# Altium footprint library ProtectionDevices.PCBLIB: 29 footprints (part 2 of 2)
Each footprint in its own frame and in the unit in brackets; x right, y up, seen from the top. Pads: shape width x height; smd on the part's side, far side on the other; paste and mask are expansions set on the pad; w line width, h text height; cw(c..) or ccw(c..) is an arc to the next point about the centre after c.
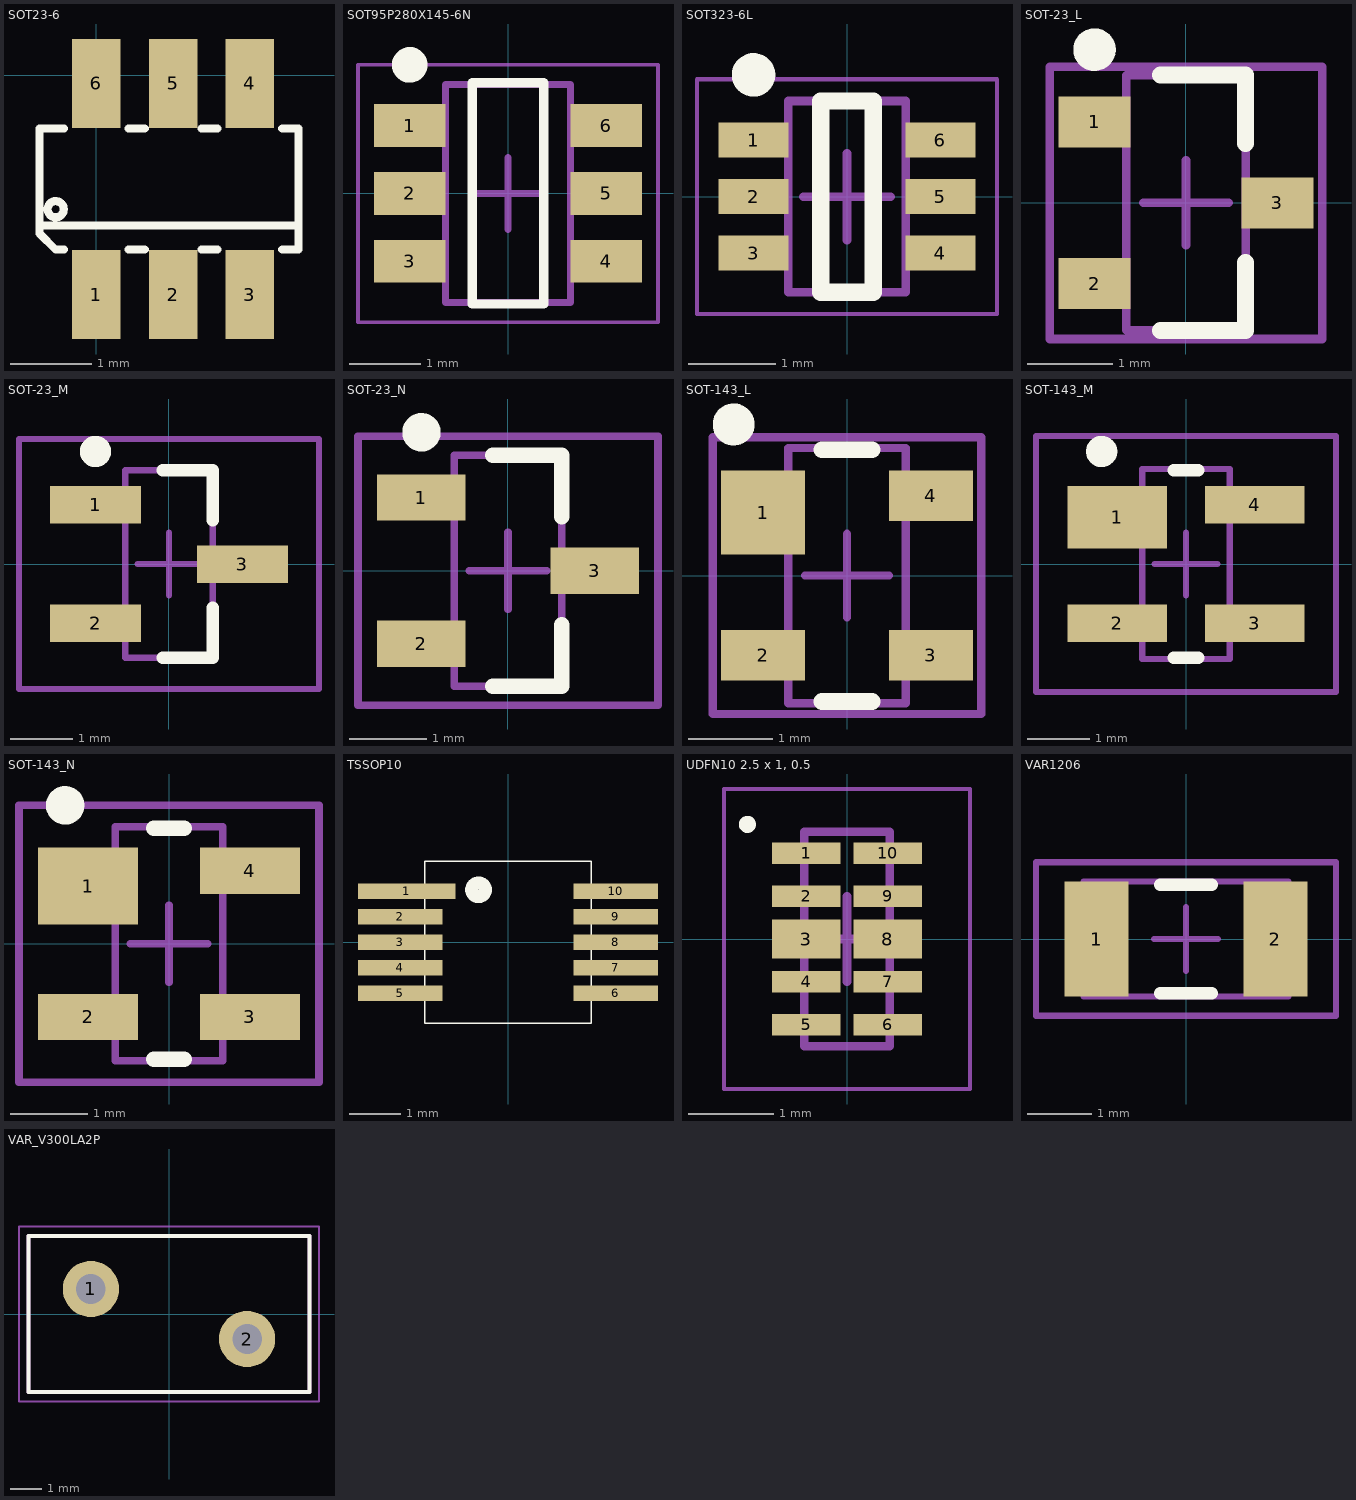
[diagram p1: the footprints below, top view; thin cyan lines are the x and y axes]

## SOT23-6 [mm]
pads (6):
  rect 0.6x1.1 smd: 1(0,-2.708) 2(0.95,-2.708) 3(1.9,-2.708) 4(1.9,-0.1) 5(0.95,-0.1) 6(0,-0.1)
Top Overlay:
  circle w0.1: c-0.5,-1.654 r0.1
  lines w0.1: -0.4,-2.154 -0.5,-2.154 -0.7,-1.954 -0.7,-1.854 ; -0.4,-0.654 -0.7,-0.654 -0.7,-1.854 ; 0.4,-2.154 0.6,-2.154 ; 0.4,-0.654 0.6,-0.654 ; 1.3,-2.154 1.5,-2.154 ; 1.3,-0.654 1.5,-0.654 ; 2.3,-2.154 2.5,-2.154 2.5,-1.854 ; 2.3,-0.654 2.5,-0.654 2.5,-1.854 ; -0.7,-1.854 2.5,-1.854
3D body "User Library-SOT23-6-2.step": height 1.45, standoff 0, extent -0.501,-2.805 2.399,-0.005

## SOT95P280X145-6N [mm] "SOT23, 6-Leads, Body 2,93x2,80mm, Pitch 0,95mm, IPC Medium Density"
height 1.45
pads (6):
  rect 1x0.6 smd: 1(-1.375,0.95) 2(-1.375,0) 3(-1.375,-0.95) 4(1.375,-0.95) 5(1.375,0) 6(1.375,0.95)
Top Overlay:
  circle w0.25: c-1.375,1.8 r0.125
  lines w0.127: -0.5,-1.55 -0.5,1.55 0.5,1.55 0.5,-1.55 -0.5,-1.55
Mechanical 13:
  lines w0.1: -0.875,-1.525 0.875,-1.525 0.875,1.525 -0.875,1.525 -0.875,-1.525
Mechanical 15:
  lines w0.05: -2.1,-1.8 2.1,-1.8 2.1,1.8 -2.1,1.8 -2.1,-1.8
  lines w0.1: -0.5,0 0.5,0 ; 0,-0.5 0,0.5
3D body "SOT95P280X145-6N.step": height 1.45, standoff 0, extent -1.5,-1.525 1.5,1.525

## SOT323-6L [mm]
height 1.1
pads (6):
  rect 0.8x0.4 smd: 1(-1.075,0.65) 2(-1.075,0) 3(-1.075,-0.65) 4(1.075,-0.65) 5(1.075,0) 6(1.075,0.65)
Top Overlay:
  circle w0.25: c-1.075,1.4 r0.125
  lines w0.2: -0.3,-1.1 0.3,-1.1 0.3,1.1 -0.3,1.1 -0.3,-1.1
Mechanical 13:
  lines w0.1: -0.675,-1.1 -0.675,1.1 0.675,1.1 0.675,-1.1 -0.675,-1.1
Mechanical 15:
  lines w0.05: -1.725,-1.35 -1.725,1.35 1.725,1.35 1.725,-1.35 -1.725,-1.35
  lines w0.1: -0.5,0 0.5,0 ; 0,-0.5 0,0.5
3D body "SOT323-6L.step": height 1.1, standoff 0, extent -1.049,-1.1 1.049,1.1

## SOT-23_L [mm] "SOT23, 3-Leads, Body 2.9x1.3mm, Pitch 0.95mm, Lead Span 2.5mm, IPC High Density"
height 1.1
pads (3):
  rect 0.85x0.6 smd: 1(-1.075,0.95) 2(-1.075,-0.95) 3(1.075,0)
Top Overlay:
  circle w0.25: c-1.075,1.8 r0.125
  lines w0.2: -0.3,-1.5 0.7,-1.5 0.7,-0.7 ; -0.3,1.5 0.7,1.5 0.7,0.7
Mechanical 13:
  lines w0.1: -0.7,-1.5 0.7,-1.5 0.7,1.5 -0.7,1.5 -0.7,-1.5
Mechanical 15:
  lines w0.1: -0.5,0 0.5,0 ; 0,-0.5 0,0.5 ; -1.6,-1.6 1.6,-1.6 1.6,1.6 -1.6,1.6 -1.6,-1.6
3D body "User Library-3-lead sot23-3.step": height 0.98, standoff -0.04, extent -1.123,-1.46 1.353,1.46

## SOT-23_M [mm] "SOT23, 3-Leads, Body 2.9x1.3mm, Pitch 0.95mm, Lead Span 2.5mm, IPC Low Density"
height 1.1
pads (3):
  rect 1.45x0.6 smd: 1(-1.175,0.95) 2(-1.175,-0.95) 3(1.175,0)
Top Overlay:
  circle w0.25: c-1.175,1.8 r0.125
  lines w0.2: -0.1,-1.5 0.7,-1.5 0.7,-0.7 ; -0.1,1.5 0.7,1.5 0.7,0.7
Mechanical 13:
  lines w0.1: -0.7,-1.5 -0.7,1.5 0.7,1.5 0.7,-1.5 -0.7,-1.5
Mechanical 15:
  lines w0.1: -0.5,0 0.5,0 ; 0,-0.5 0,0.5 ; -2.4,-2 -2.4,2 2.4,2 2.4,-2 -2.4,-2
3D body "User Library-3-lead sot23-3.step": height 0.98, standoff -0.04, extent -1.377,-1.46 1.099,1.46

## SOT-23_N [mm] "SOT23, 3-Leads, Body 2.9x1.3mm, Pitch 0.95mm, Lead Span 2.5mm, IPC Medium Density"
height 1.1
pads (3):
  rect 1.15x0.6 smd: 1(-1.125,0.95) 2(-1.125,-0.95) 3(1.125,0)
Top Overlay:
  circle w0.25: c-1.125,1.8 r0.125
  lines w0.2: -0.2,-1.5 0.7,-1.5 0.7,-0.7 ; -0.2,1.5 0.7,1.5 0.7,0.7
Mechanical 13:
  lines w0.1: -0.7,-1.5 0.7,-1.5 0.7,1.5 -0.7,1.5 -0.7,-1.5
Mechanical 15:
  lines w0.1: -0.5,0 0.5,0 ; 0,-0.5 0,0.5 ; -1.95,-1.75 1.95,-1.75 1.95,1.75 -1.95,1.75 -1.95,-1.75
3D body "User Library-3-lead sot23-3.step": height 0.98, standoff -0.04, extent -1.25,-1.46 1.226,1.46

## SOT-143_L [mm] "SOT143, 4-Leads, Body 2.9x1.3mm, Pitch 1.9mm, Lead Span 2.5mm, IPC High Density"
height 1.1
pads (4):
  rect 1x1 smd: 1(-1,0.75)
  rect 1x0.6 smd: 2(-1,-0.95) 3(1,-0.95) 4(1,0.95)
Top Overlay:
  circle w0.25: c-1.35,1.8 r0.125
  lines w0.2: -0.3,-1.5 0.3,-1.5 ; -0.3,1.5 0.3,1.5
Mechanical 13:
  lines w0.1: -0.7,-1.52 -0.7,1.52 0.7,1.52 0.7,-1.52 -0.7,-1.52
Mechanical 15:
  lines w0.1: -0.5,0 0.5,0 ; 0,-0.5 0,0.5 ; -1.6,-1.65 -1.6,1.65 1.6,1.65 1.6,-1.65 -1.6,-1.65
3D body "User Library-sot143.step": height 0.97, standoff -0.03, extent -1.21,-1.46 1.21,1.46

## SOT-143_M [mm] "SOT143, 4-Leads, Body 2.9x1.3mm, Pitch 1.9mm, Lead Span 2.5mm, IPC Low Density"
height 1.1
pads (4):
  rect 1.6x1 smd: 1(-1.1,0.75)
  rect 1.6x0.6 smd: 2(-1.1,-0.95) 3(1.1,-0.95) 4(1.1,0.95)
Top Overlay:
  circle w0.25: c-1.35,1.8 r0.125
  lines w0.2: -0.2,-1.5 0.2,-1.5 ; -0.2,1.5 0.2,1.5
Mechanical 13:
  lines w0.1: -0.7,-1.52 -0.7,1.52 0.7,1.52 0.7,-1.52 -0.7,-1.52
Mechanical 15:
  lines w0.1: -0.5,0 0.5,0 ; 0,-0.5 0,0.5 ; -2.4,-2.05 -2.4,2.05 2.4,2.05 2.4,-2.05 -2.4,-2.05
3D body "User Library-sot143.step": height 0.97, standoff -0.03, extent -1.21,-1.46 1.21,1.46

## SOT-143_N [mm] "SOT143, 4-Leads, Body 2.9x1.3mm, Pitch 1.9mm, Lead Span 2.5mm, IPC Medium Density"
height 1.1
pads (4):
  rect 1.3x1 smd: 1(-1.05,0.75)
  rect 1.3x0.6 smd: 2(-1.05,-0.95) 3(1.05,-0.95) 4(1.05,0.95)
Top Overlay:
  circle w0.25: c-1.35,1.8 r0.125
  lines w0.2: -0.2,-1.5 0.2,-1.5 ; -0.2,1.5 0.2,1.5
Mechanical 13:
  lines w0.1: -0.7,-1.52 -0.7,1.52 0.7,1.52 0.7,-1.52 -0.7,-1.52
Mechanical 15:
  lines w0.1: -0.5,0 0.5,0 ; 0,-0.5 0,0.5 ; -1.95,-1.8 -1.95,1.8 1.95,1.8 1.95,-1.8 -1.95,-1.8
3D body "User Library-sot143.step": height 0.97, standoff -0.03, extent -1.21,-1.46 1.21,1.46

## TSSOP10 [mil] "TSSOP10"
pads (10):
  rect 75x12 smd mask+2: 1(-78,39.37)
  rect 65x12 smd mask+2: 2(-83,19.69) 3(-83,0) 4(-83,-19.69) 5(-83,-39.37) 6(83,-39.37) 7(83,-19.69) 8(83,0) 9(83,19.69) 10(83,39.37)
Top Overlay:
  circle w10: c-22.64,40.35 r5.3
  lines w1: -63.98,-62.5 -63.98,62.5 63.98,62.5 63.98,-62.5 -63.98,-62.5
3D body "TSSOP10.step": height 43.31, standoff 0, extent -98.42,-59.06 98.43,59.05

## UDFN10 2.5 x 1, 0.5 [mm]
height 0.55
pads (10):
  rect 0.8x0.25 smd: 1(-0.475,1) 2(-0.475,0.5) 4(-0.475,-0.5) 5(-0.475,-1) 6(0.475,-1) 7(0.475,-0.5) 9(0.475,0.5) 10(0.475,1)
  rect 0.8x0.45 smd: 3(-0.475,0) 8(0.475,0)
Top Overlay:
  circle w0.1: c-1.162,1.337 r0.05
Mechanical 13:
  lines w0.1: -0.5,-1.25 -0.5,1.25 0.5,1.25 0.5,-1.25 -0.5,-1.25
Mechanical 15:
  lines w0.05: -1.435,-1.75 -1.435,1.75 1.435,1.75 1.435,-1.75 -1.435,-1.75
  lines w0.1: -0.5,0 0.5,0 ; 0,-0.5 0,0.5
3D body "UDFN10 2.5 x 1, 0.5.step": height 0.55, standoff 0, extent -0.55,-1.25 0.55,1.25

## VAR1206 [mm]
pads (2):
  rect 1x1.8 smd: 1(-1.4,0) 2(1.4,0)
Top Overlay:
  lines w0.2: -0.4,-0.85 0.4,-0.85 ; -0.4,0.85 0.4,0.85
Mechanical 13:
  lines w0.1: -1.6,-0.9 -1.6,0.9 1.6,0.9 1.6,-0.9 -1.6,-0.9
Mechanical 15:
  lines w0.1: -0.5,0 0.5,0 ; 0,-0.5 0,0.5 ; -2.35,-1.2 -2.35,1.2 2.35,1.2 2.35,-1.2 -2.35,-1.2
3D body "User Library-V1206HD.STEP": height 1.59, standoff -0.01, extent -1.6,-0.737 1.6,0.763

## VAR_V300LA2P [mm] "VARISTOR 490V 1.2KA DISC 7MM"
pads (2):
  round 1.8 hole 0.95: 1(-2.5,0.8) 2(2.5,-0.8)
Top Overlay:
  lines w0.127: -4.5,-2.5 -4.5,2.5 4.5,2.5 4.5,-2.5 -4.5,-2.5
Mechanical 13:
  lines w0.127: -4.5,-2.5 -4.5,2.5 4.5,2.5 4.5,-2.5 -4.5,-2.5
Mechanical 15:
  lines w0.05: -4.8,-2.8 4.8,-2.8 4.8,2.8 -4.8,2.8 -4.8,-2.8
3D body "mov-07d221k.stp": height 20.49, standoff -10.5, extent -4.5,-1.7 4.5,1.8